# EAGLE library part LMC555CMX/NOPB (library grss)
555 Timer
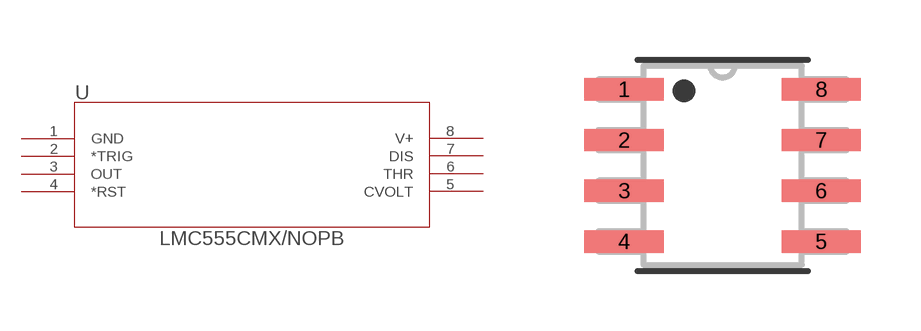
[diagram p0: symbol with the pads of M08A; footprint M08A]

Designator prefix U

## LMC555CMX/NOPB (MANUFACTURER: Texas Instruments; MANUFACTURER_PN: LMC555CMX/NOPB; VALUE: LMC555CMX/NOPB; VENDOR: Digi-key; VENDOR_PN: LMC555CMX/NOPBCT-ND)  [M08A]
1  GND  pwr
2  *TRIG  in
3  OUT  out
4  *RST  in
5  CVOLT  pas
6  THR  in
7  DIS  pas
8  V+  pwr

## Footprint M08A (pad centres in mm)
555 Timer Author: Lincoln Glauser Notes: Modified after imported from Ultra-Librarian
smd 1.981 x 0.559: 1 -2.464,1.905; 2 -2.464,0.635; 3 -2.464,-0.635; 4 -2.464,-1.905; 5 2.464,-1.905; 6 2.464,-0.635; 7 2.464,0.635; 8 2.464,1.905